# EAGLE library part EMIF04-1005 (library Marvin)
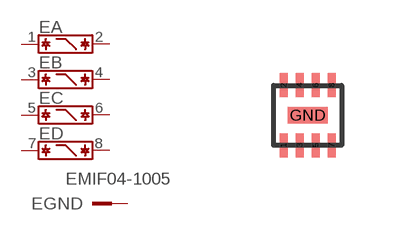
[diagram p2: symbol with the pads of QFN17X15; footprint QFN17X15]

Designator prefix E; gates A=LOW-PASS B=LOW-PASS C=LOW-PASS D=LOW-PASS GND=PINV

## EMIF04-1005  [QFN17X15]
1  A:P$1
2  A:P$2
3  B:P$1
4  B:P$2
5  C:P$1
6  C:P$2
7  D:P$1
8  D:P$2
GND  GND:KL  pas

## Footprint QFN17X15 (pad centres in mm)
smd 0.2 x 0.6: 1 -0.6,-0.75; 2 -0.6,0.75; 3 -0.2,-0.75; 4 -0.2,0.75; 5 0.2,-0.75; 6 0.2,0.75; 7 0.6,-0.75; 8 0.6,0.75
smd 1 x 0.4: GND 0,0